# Altium footprint library MicroSMD_40P_V.PcbLib: 12 footprints
Each footprint in its own frame and in the unit in brackets; x right, y up, seen from the top. Pads: shape width x height; smd on the part's side, far side on the other; paste and mask are expansions set on the pad; w line width, h text height; cw(c..) or ccw(c..) is an arc to the next point about the centre after c.
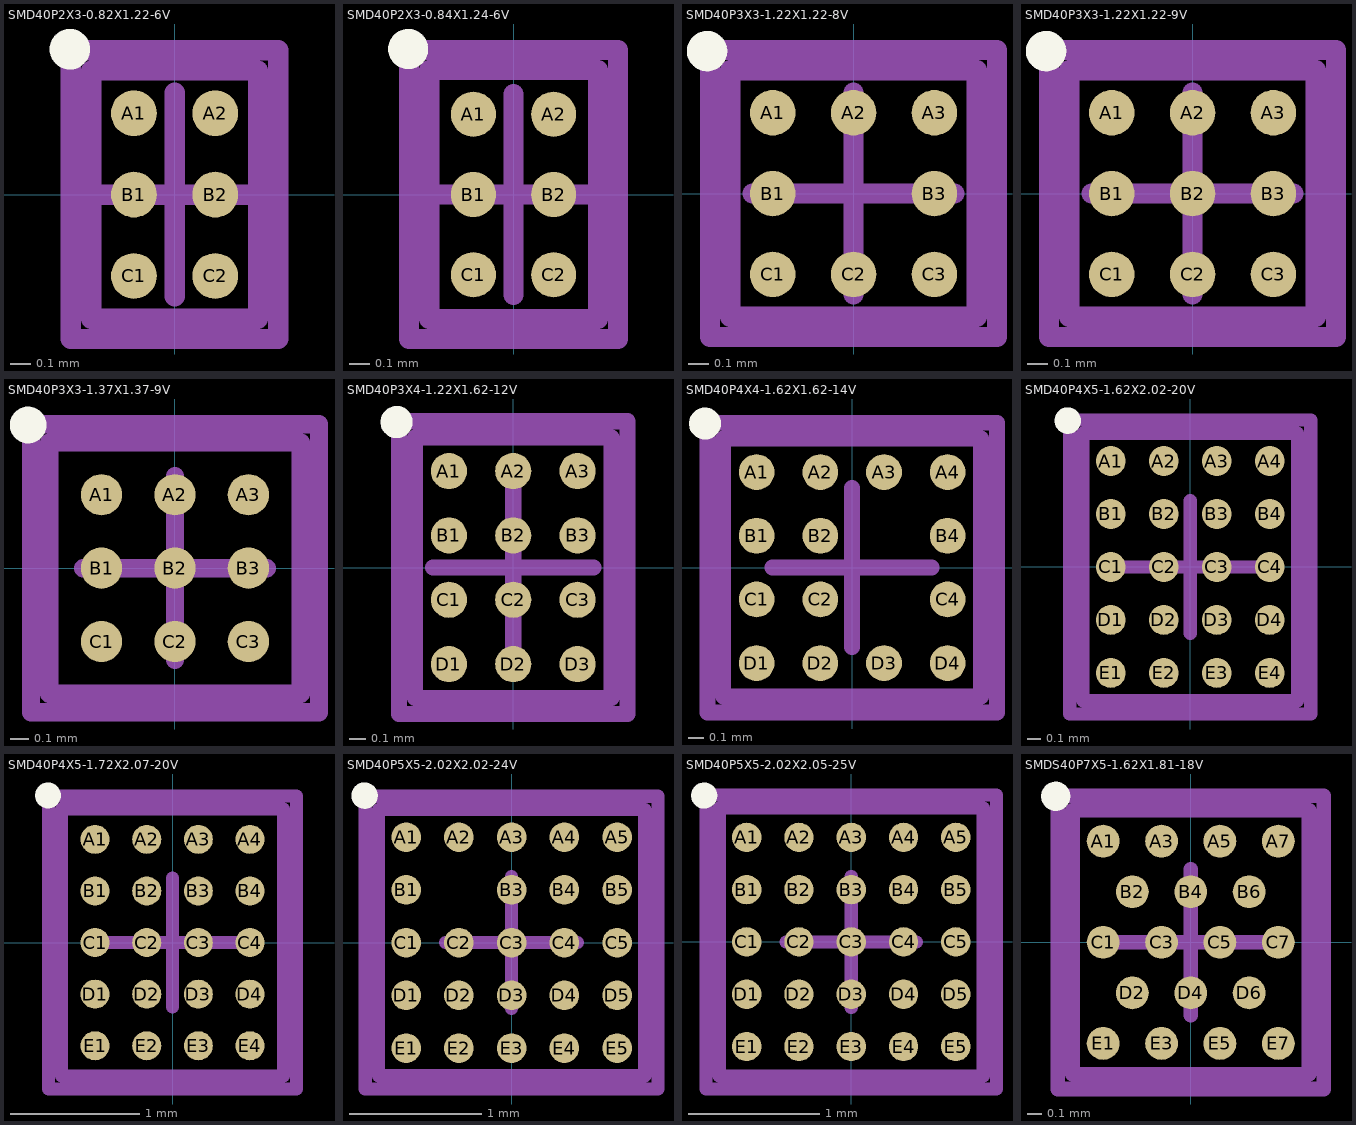
[diagram p0: the footprints below, top view; thin cyan lines are the x and y axes]

## SMD40P2X3-0.82X1.22-6V [mm] "Micro SMD, 6-Leads, Body 1.22x0.82mm, Pitch 0.4mm, NSC Recommended"
height 0.68
pads (6):
  round 0.225 smd paste-0.112 mask+0.05: A1(-0.2,0.4) A2(0.2,0.4) B1(-0.2,0) B2(0.2,0) C1(-0.2,-0.4) C2(0.2,-0.4)
Top Overlay:
  circle w0.1: c-0.515,0.715 r0.05
Top Paste:
  circle w0.05: c-0.15,0.5 r0.025
  circle w0.05: c-0.3,0.35 r0.025
  circle w0.05: c-0.3,0.5 r0.025
  circle w0.05: c-0.15,0.35 r0.025
  circle w0.05: c0.3,0.5 r0.025
  circle w0.05: c0.15,0.35 r0.025
  circle w0.05: c0.15,0.5 r0.025
  circle w0.05: c0.3,0.35 r0.025
  circle w0.05: c-0.15,0.075 r0.025
  circle w0.05: c-0.3,-0.075 r0.025
  circle w0.05: c-0.3,0.075 r0.025
  circle w0.05: c-0.15,-0.075 r0.025
  circle w0.05: c0.3,0.075 r0.025
  circle w0.05: c0.15,-0.075 r0.025
  circle w0.05: c0.15,0.075 r0.025
  circle w0.05: c0.3,-0.075 r0.025
  circle w0.05: c-0.15,-0.35 r0.025
  circle w0.05: c-0.3,-0.5 r0.025
  circle w0.05: c-0.3,-0.35 r0.025
  circle w0.05: c-0.15,-0.5 r0.025
  circle w0.05: c0.3,-0.35 r0.025
  circle w0.05: c0.15,-0.5 r0.025
  circle w0.05: c0.15,-0.35 r0.025
  circle w0.05: c0.3,-0.5 r0.025
  rectangle: -0.3,0.3 -0.15,0.35
  region: -0.35,0.5 -0.35,0.35 -0.3,0.35 -0.3,0.5
  region: -0.15,0.55 -0.3,0.55 -0.3,0.5 -0.15,0.5
  region: -0.1,0.35 -0.1,0.5 -0.15,0.5 -0.15,0.35
  region: -0.3,0.5 -0.3,0.35 -0.15,0.35 -0.15,0.5
  rectangle: 0.15,0.3 0.3,0.35
  region: 0.1,0.5 0.1,0.35 0.15,0.35 0.15,0.5
  region: 0.3,0.55 0.15,0.55 0.15,0.5 0.3,0.5
  region: 0.35,0.35 0.35,0.5 0.3,0.5 0.3,0.35
  region: 0.15,0.5 0.15,0.35 0.3,0.35 0.3,0.5
  rectangle: -0.3,-0.125 -0.15,-0.075
  region: -0.35,0.075 -0.35,-0.075 -0.3,-0.075 -0.3,0.075
  region: -0.15,0.125 -0.3,0.125 -0.3,0.075 -0.15,0.075
  region: -0.1,-0.075 -0.1,0.075 -0.15,0.075 -0.15,-0.075
  region: -0.3,0.075 -0.3,-0.075 -0.15,-0.075 -0.15,0.075
  rectangle: 0.15,-0.125 0.3,-0.075
  region: 0.1,0.075 0.1,-0.075 0.15,-0.075 0.15,0.075
  region: 0.3,0.125 0.15,0.125 0.15,0.075 0.3,0.075
  region: 0.35,-0.075 0.35,0.075 0.3,0.075 0.3,-0.075
  region: 0.15,0.075 0.15,-0.075 0.3,-0.075 0.3,0.075
  rectangle: -0.3,-0.55 -0.15,-0.5
  region: -0.35,-0.35 -0.35,-0.5 -0.3,-0.5 -0.3,-0.35
  region: -0.15,-0.3 -0.3,-0.3 -0.3,-0.35 -0.15,-0.35
  region: -0.1,-0.5 -0.1,-0.35 -0.15,-0.35 -0.15,-0.5
  region: -0.3,-0.35 -0.3,-0.5 -0.15,-0.5 -0.15,-0.35
  rectangle: 0.15,-0.55 0.3,-0.5
  region: 0.1,-0.35 0.1,-0.5 0.15,-0.5 0.15,-0.35
  region: 0.3,-0.3 0.15,-0.3 0.15,-0.35 0.3,-0.35
  region: 0.35,-0.5 0.35,-0.35 0.3,-0.35 0.3,-0.5
  region: 0.15,-0.35 0.15,-0.5 0.3,-0.5 0.3,-0.35
Mechanical 13:
  lines w0.1: -0.41,-0.61 -0.41,0.61 0.41,0.61 0.41,-0.61 -0.41,-0.61
Mechanical 15:
  lines w0.1: -0.5,0 0.5,0 ; 0,-0.5 0,0.5 ; -0.51,-0.71 -0.51,0.71 0.51,0.71 0.51,-0.71 -0.51,-0.71
3D body: height 0.68, standoff 0, extent -0.41,-0.61 0.41,0.61

## SMD40P2X3-0.84X1.24-6V [mm] "Micro SMD, 6-Leads, Body 1.24x0.84mm, Pitch 0.4mm, NSC Recommended"
height 0.68
pads (6):
  round 0.225 smd paste-0.112 mask+0.05: A1(-0.2,0.4) A2(0.2,0.4) B1(-0.2,0) B2(0.2,0) C1(-0.2,-0.4) C2(0.2,-0.4)
Top Overlay:
  circle w0.1: c-0.525,0.725 r0.05
Top Paste:
  circle w0.05: c0.15,0.075 r0.025
  circle w0.05: c0.3,-0.075 r0.025
  circle w0.05: c0.15,-0.075 r0.025
  circle w0.05: c0.3,0.075 r0.025
  circle w0.05: c0.15,0.35 r0.025
  circle w0.05: c0.3,0.5 r0.025
  circle w0.05: c0.3,0.35 r0.025
  circle w0.05: c0.15,0.5 r0.025
  circle w0.05: c0.15,-0.35 r0.025
  circle w0.05: c0.3,-0.5 r0.025
  circle w0.05: c0.3,-0.35 r0.025
  circle w0.05: c0.15,-0.5 r0.025
  circle w0.05: c-0.15,0.075 r0.025
  circle w0.05: c-0.3,-0.075 r0.025
  circle w0.05: c-0.15,-0.075 r0.025
  circle w0.05: c-0.3,0.075 r0.025
  circle w0.05: c-0.15,0.35 r0.025
  circle w0.05: c-0.3,0.5 r0.025
  circle w0.05: c-0.3,0.35 r0.025
  circle w0.05: c-0.15,0.5 r0.025
  circle w0.05: c-0.15,-0.35 r0.025
  circle w0.05: c-0.3,-0.5 r0.025
  circle w0.05: c-0.3,-0.35 r0.025
  circle w0.05: c-0.15,-0.5 r0.025
  region: 0.3,0.075 0.15,0.075 0.15,-0.075 0.3,-0.075
  rectangle: 0.15,0.075 0.3,0.125
  region: 0.3,0.075 0.3,-0.075 0.35,-0.075 0.35,0.075
  region: 0.3,-0.075 0.15,-0.075 0.15,-0.125 0.3,-0.125
  region: 0.15,-0.075 0.15,0.075 0.1,0.075 0.1,-0.075
  region: 0.15,0.5 0.15,0.35 0.3,0.35 0.3,0.5
  region: 0.15,0.35 0.15,0.5 0.1,0.5 0.1,0.35
  rectangle: 0.15,0.5 0.3,0.55
  region: 0.3,0.5 0.3,0.35 0.35,0.35 0.35,0.5
  region: 0.3,0.35 0.15,0.35 0.15,0.3 0.3,0.3
  region: 0.3,-0.5 0.3,-0.35 0.15,-0.35 0.15,-0.5
  region: 0.1,-0.35 0.1,-0.5 0.15,-0.5 0.15,-0.35
  rectangle: 0.15,-0.55 0.3,-0.5
  region: 0.35,-0.5 0.35,-0.35 0.3,-0.35 0.3,-0.5
  region: 0.3,-0.3 0.15,-0.3 0.15,-0.35 0.3,-0.35
  rectangle: -0.3,-0.075 -0.15,0.075
  region: -0.15,0.125 -0.3,0.125 -0.3,0.075 -0.15,0.075
  region: -0.35,0.075 -0.35,-0.075 -0.3,-0.075 -0.3,0.075
  rectangle: -0.3,-0.125 -0.15,-0.075
  region: -0.1,-0.075 -0.1,0.075 -0.15,0.075 -0.15,-0.075
  region: -0.3,0.5 -0.3,0.35 -0.15,0.35 -0.15,0.5
  region: -0.1,0.35 -0.1,0.5 -0.15,0.5 -0.15,0.35
  region: -0.15,0.55 -0.3,0.55 -0.3,0.5 -0.15,0.5
  region: -0.35,0.5 -0.35,0.35 -0.3,0.35 -0.3,0.5
  rectangle: -0.3,0.3 -0.15,0.35
  region: -0.15,-0.5 -0.15,-0.35 -0.3,-0.35 -0.3,-0.5
  region: -0.15,-0.35 -0.15,-0.5 -0.1,-0.5 -0.1,-0.35
  region: -0.15,-0.5 -0.3,-0.5 -0.3,-0.55 -0.15,-0.55
  region: -0.3,-0.5 -0.3,-0.35 -0.35,-0.35 -0.35,-0.5
  rectangle: -0.3,-0.35 -0.15,-0.3
Mechanical 13:
  lines w0.1: -0.42,-0.62 0.42,-0.62 0.42,0.62 -0.42,0.62 -0.42,-0.62
Mechanical 15:
  lines w0.1: -0.5,0 0.5,0 ; 0,-0.5 0,0.5 ; -0.52,-0.72 0.52,-0.72 0.52,0.72 -0.52,0.72 -0.52,-0.72
3D body: height 0.68, standoff 0.17, extent -0.419,-0.619 0.419,0.619

## SMD40P3X3-1.22X1.22-8V [mm] "Micro SMD, 8-Leads, Body 1.22x1.22mm, Pitch 0.4mm, NSC Recommended"
height 0.68
pads (8):
  round 0.225 smd paste-0.112 mask+0.05: A1(-0.4,0.4) A2(0,0.4) A3(0.4,0.4) B1(-0.4,0) B3(0.4,0) C1(-0.4,-0.4) C2(0,-0.4) C3(0.4,-0.4)
Top Overlay:
  circle w0.1: c-0.725,0.705 r0.05
Top Paste:
  circle w0.05: c0.35,-0.075 r0.025
  circle w0.05: c0.5,0.075 r0.025
  circle w0.05: c0.35,0.075 r0.025
  circle w0.05: c0.5,-0.075 r0.025
  circle w0.05: c-0.075,-0.35 r0.025
  circle w0.05: c0.075,-0.5 r0.025
  circle w0.05: c0.075,-0.35 r0.025
  circle w0.05: c-0.075,-0.5 r0.025
  circle w0.05: c-0.35,0.075 r0.025
  circle w0.05: c-0.5,-0.075 r0.025
  circle w0.05: c-0.35,-0.075 r0.025
  circle w0.05: c-0.5,0.075 r0.025
  circle w0.05: c0.075,0.35 r0.025
  circle w0.05: c-0.075,0.5 r0.025
  circle w0.05: c-0.075,0.35 r0.025
  circle w0.05: c0.075,0.5 r0.025
  circle w0.05: c-0.35,0.35 r0.025
  circle w0.05: c-0.5,0.5 r0.025
  circle w0.05: c-0.5,0.35 r0.025
  circle w0.05: c-0.35,0.5 r0.025
  circle w0.05: c0.35,0.35 r0.025
  circle w0.05: c0.5,0.5 r0.025
  circle w0.05: c0.5,0.35 r0.025
  circle w0.05: c0.35,0.5 r0.025
  circle w0.05: c0.35,-0.35 r0.025
  circle w0.05: c0.5,-0.5 r0.025
  circle w0.05: c0.5,-0.35 r0.025
  circle w0.05: c0.35,-0.5 r0.025
  circle w0.05: c-0.35,-0.35 r0.025
  circle w0.05: c-0.5,-0.5 r0.025
  circle w0.05: c-0.5,-0.35 r0.025
  circle w0.05: c-0.35,-0.5 r0.025
  region: 0.5,0.075 0.35,0.075 0.35,-0.075 0.5,-0.075
  rectangle: 0.35,-0.125 0.5,-0.075
  region: 0.55,-0.075 0.55,0.075 0.5,0.075 0.5,-0.075
  region: 0.5,0.125 0.35,0.125 0.35,0.075 0.5,0.075
  region: 0.3,0.075 0.3,-0.075 0.35,-0.075 0.35,0.075
  region: 0.075,-0.5 0.075,-0.35 -0.075,-0.35 -0.075,-0.5
  region: -0.125,-0.35 -0.125,-0.5 -0.075,-0.5 -0.075,-0.35
  rectangle: -0.075,-0.55 0.075,-0.5
  region: 0.125,-0.5 0.125,-0.35 0.075,-0.35 0.075,-0.5
  region: 0.075,-0.3 -0.075,-0.3 -0.075,-0.35 0.075,-0.35
  rectangle: -0.5,-0.075 -0.35,0.075
  region: -0.35,0.125 -0.5,0.125 -0.5,0.075 -0.35,0.075
  region: -0.55,0.075 -0.55,-0.075 -0.5,-0.075 -0.5,0.075
  rectangle: -0.5,-0.125 -0.35,-0.075
  region: -0.3,-0.075 -0.3,0.075 -0.35,0.075 -0.35,-0.075
  region: -0.075,0.5 -0.075,0.35 0.075,0.35 0.075,0.5
  region: 0.125,0.35 0.125,0.5 0.075,0.5 0.075,0.35
  region: 0.075,0.55 -0.075,0.55 -0.075,0.5 0.075,0.5
  region: -0.125,0.5 -0.125,0.35 -0.075,0.35 -0.075,0.5
  rectangle: -0.075,0.3 0.075,0.35
  region: -0.5,0.5 -0.5,0.35 -0.35,0.35 -0.35,0.5
  region: -0.3,0.35 -0.3,0.5 -0.35,0.5 -0.35,0.35
  region: -0.35,0.55 -0.5,0.55 -0.5,0.5 -0.35,0.5
  region: -0.55,0.5 -0.55,0.35 -0.5,0.35 -0.5,0.5
  rectangle: -0.5,0.3 -0.35,0.35
  region: 0.35,0.5 0.35,0.35 0.5,0.35 0.5,0.5
  region: 0.35,0.35 0.35,0.5 0.3,0.5 0.3,0.35
  rectangle: 0.35,0.5 0.5,0.55
  region: 0.5,0.5 0.5,0.35 0.55,0.35 0.55,0.5
  region: 0.5,0.35 0.35,0.35 0.35,0.3 0.5,0.3
  region: 0.5,-0.5 0.5,-0.35 0.35,-0.35 0.35,-0.5
  region: 0.3,-0.35 0.3,-0.5 0.35,-0.5 0.35,-0.35
  rectangle: 0.35,-0.55 0.5,-0.5
  region: 0.55,-0.5 0.55,-0.35 0.5,-0.35 0.5,-0.5
  region: 0.5,-0.3 0.35,-0.3 0.35,-0.35 0.5,-0.35
  region: -0.35,-0.5 -0.35,-0.35 -0.5,-0.35 -0.5,-0.5
  region: -0.35,-0.35 -0.35,-0.5 -0.3,-0.5 -0.3,-0.35
  region: -0.35,-0.5 -0.5,-0.5 -0.5,-0.55 -0.35,-0.55
  region: -0.5,-0.5 -0.5,-0.35 -0.55,-0.35 -0.55,-0.5
  rectangle: -0.5,-0.35 -0.35,-0.3
Mechanical 13:
  lines w0.1: -0.61,-0.61 0.61,-0.61 0.61,0.61 -0.61,0.61 -0.61,-0.61
Mechanical 15:
  lines w0.1: -0.5,0 0.5,0 ; 0,-0.5 0,0.5 ; -0.71,-0.71 0.71,-0.71 0.71,0.71 -0.71,0.71 -0.71,-0.71
3D body: height 0.68, standoff 0.17, extent -0.609,-0.609 0.609,0.609

## SMD40P3X3-1.22X1.22-9V [mm] "Micro SMD, 9-Leads, Body 1.22x1.22mm, Pitch 0.4mm, NSC Recommended"
height 0.68
pads (9):
  round 0.225 smd paste-0.112 mask+0.05: A1(-0.4,0.4) A2(0,0.4) A3(0.4,0.4) B1(-0.4,0) B2(0,0) B3(0.4,0) C1(-0.4,-0.4) C2(0,-0.4) C3(0.4,-0.4)
Top Overlay:
  circle w0.1: c-0.725,0.705 r0.05
Top Paste:
  circle w0.05: c0.075,-0.075 r0.025
  circle w0.05: c-0.075,0.075 r0.025
  circle w0.05: c-0.075,-0.075 r0.025
  circle w0.05: c0.075,0.075 r0.025
  circle w0.05: c-0.35,-0.5 r0.025
  circle w0.05: c-0.5,-0.35 r0.025
  circle w0.05: c-0.5,-0.5 r0.025
  circle w0.05: c-0.35,-0.35 r0.025
  circle w0.05: c0.35,-0.5 r0.025
  circle w0.05: c0.5,-0.35 r0.025
  circle w0.05: c0.5,-0.5 r0.025
  circle w0.05: c0.35,-0.35 r0.025
  circle w0.05: c0.35,0.5 r0.025
  circle w0.05: c0.5,0.35 r0.025
  circle w0.05: c0.5,0.5 r0.025
  circle w0.05: c0.35,0.35 r0.025
  circle w0.05: c-0.35,0.5 r0.025
  circle w0.05: c-0.5,0.35 r0.025
  circle w0.05: c-0.5,0.5 r0.025
  circle w0.05: c-0.35,0.35 r0.025
  circle w0.05: c0.075,0.5 r0.025
  circle w0.05: c-0.075,0.35 r0.025
  circle w0.05: c-0.075,0.5 r0.025
  circle w0.05: c0.075,0.35 r0.025
  circle w0.05: c-0.5,0.075 r0.025
  circle w0.05: c-0.35,-0.075 r0.025
  circle w0.05: c-0.5,-0.075 r0.025
  circle w0.05: c-0.35,0.075 r0.025
  circle w0.05: c-0.075,-0.5 r0.025
  circle w0.05: c0.075,-0.35 r0.025
  circle w0.05: c0.075,-0.5 r0.025
  circle w0.05: c-0.075,-0.35 r0.025
  circle w0.05: c0.5,-0.075 r0.025
  circle w0.05: c0.35,0.075 r0.025
  circle w0.05: c0.5,0.075 r0.025
  circle w0.05: c0.35,-0.075 r0.025
  region: -0.075,0.075 -0.075,-0.075 0.075,-0.075 0.075,0.075
  region: 0.125,-0.075 0.125,0.075 0.075,0.075 0.075,-0.075
  region: 0.075,0.125 -0.075,0.125 -0.075,0.075 0.075,0.075
  region: -0.125,0.075 -0.125,-0.075 -0.075,-0.075 -0.075,0.075
  rectangle: -0.075,-0.125 0.075,-0.075
  rectangle: -0.5,-0.35 -0.35,-0.3
  region: -0.5,-0.5 -0.5,-0.35 -0.55,-0.35 -0.55,-0.5
  region: -0.35,-0.5 -0.5,-0.5 -0.5,-0.55 -0.35,-0.55
  region: -0.35,-0.35 -0.35,-0.5 -0.3,-0.5 -0.3,-0.35
  region: -0.35,-0.5 -0.35,-0.35 -0.5,-0.35 -0.5,-0.5
  region: 0.5,-0.3 0.35,-0.3 0.35,-0.35 0.5,-0.35
  region: 0.55,-0.5 0.55,-0.35 0.5,-0.35 0.5,-0.5
  rectangle: 0.35,-0.55 0.5,-0.5
  region: 0.3,-0.35 0.3,-0.5 0.35,-0.5 0.35,-0.35
  region: 0.5,-0.5 0.5,-0.35 0.35,-0.35 0.35,-0.5
  region: 0.5,0.35 0.35,0.35 0.35,0.3 0.5,0.3
  region: 0.5,0.5 0.5,0.35 0.55,0.35 0.55,0.5
  rectangle: 0.35,0.5 0.5,0.55
  region: 0.35,0.35 0.35,0.5 0.3,0.5 0.3,0.35
  region: 0.35,0.5 0.35,0.35 0.5,0.35 0.5,0.5
  rectangle: -0.5,0.3 -0.35,0.35
  region: -0.55,0.5 -0.55,0.35 -0.5,0.35 -0.5,0.5
  region: -0.35,0.55 -0.5,0.55 -0.5,0.5 -0.35,0.5
  region: -0.3,0.35 -0.3,0.5 -0.35,0.5 -0.35,0.35
  region: -0.5,0.5 -0.5,0.35 -0.35,0.35 -0.35,0.5
  rectangle: -0.075,0.3 0.075,0.35
  region: -0.125,0.5 -0.125,0.35 -0.075,0.35 -0.075,0.5
  region: 0.075,0.55 -0.075,0.55 -0.075,0.5 0.075,0.5
  region: 0.125,0.35 0.125,0.5 0.075,0.5 0.075,0.35
  region: -0.075,0.5 -0.075,0.35 0.075,0.35 0.075,0.5
  region: -0.3,-0.075 -0.3,0.075 -0.35,0.075 -0.35,-0.075
  rectangle: -0.5,-0.125 -0.35,-0.075
  region: -0.55,0.075 -0.55,-0.075 -0.5,-0.075 -0.5,0.075
  region: -0.35,0.125 -0.5,0.125 -0.5,0.075 -0.35,0.075
  rectangle: -0.5,-0.075 -0.35,0.075
  region: 0.075,-0.3 -0.075,-0.3 -0.075,-0.35 0.075,-0.35
  region: 0.125,-0.5 0.125,-0.35 0.075,-0.35 0.075,-0.5
  rectangle: -0.075,-0.55 0.075,-0.5
  region: -0.125,-0.35 -0.125,-0.5 -0.075,-0.5 -0.075,-0.35
  region: 0.075,-0.5 0.075,-0.35 -0.075,-0.35 -0.075,-0.5
  region: 0.3,0.075 0.3,-0.075 0.35,-0.075 0.35,0.075
  region: 0.5,0.125 0.35,0.125 0.35,0.075 0.5,0.075
  region: 0.55,-0.075 0.55,0.075 0.5,0.075 0.5,-0.075
  rectangle: 0.35,-0.125 0.5,-0.075
  region: 0.5,0.075 0.35,0.075 0.35,-0.075 0.5,-0.075
Mechanical 13:
  lines w0.1: -0.61,-0.61 0.61,-0.61 0.61,0.61 -0.61,0.61 -0.61,-0.61
Mechanical 15:
  lines w0.1: -0.5,0 0.5,0 ; 0,-0.5 0,0.5 ; -0.71,-0.71 0.71,-0.71 0.71,0.71 -0.71,0.71 -0.71,-0.71
3D body: height 0.68, standoff 0, extent -0.609,-0.609 0.609,0.609

## SMD40P3X3-1.37X1.37-9V [mm] "Micro SMD, 9-Leads, Body 1.37x1.37mm, Pitch 0.4mm, NSC Recommended"
height 0.68
pads (9):
  round 0.225 smd paste-0.112 mask+0.05: A1(-0.4,0.4) A2(0,0.4) A3(0.4,0.4) B1(-0.4,0) B2(0,0) B3(0.4,0) C1(-0.4,-0.4) C2(0,-0.4) C3(0.4,-0.4)
Top Overlay:
  circle w0.1: c-0.8,0.78 r0.05
Top Paste:
  circle w0.05: c-0.075,-0.35 r0.025
  circle w0.05: c0.075,-0.5 r0.025
  circle w0.05: c0.075,-0.35 r0.025
  circle w0.05: c-0.075,-0.5 r0.025
  circle w0.05: c-0.35,0.075 r0.025
  circle w0.05: c-0.5,-0.075 r0.025
  circle w0.05: c-0.35,-0.075 r0.025
  circle w0.05: c-0.5,0.075 r0.025
  circle w0.05: c0.075,0.35 r0.025
  circle w0.05: c-0.075,0.5 r0.025
  circle w0.05: c-0.075,0.35 r0.025
  circle w0.05: c0.075,0.5 r0.025
  circle w0.05: c0.35,-0.075 r0.025
  circle w0.05: c0.5,0.075 r0.025
  circle w0.05: c0.35,0.075 r0.025
  circle w0.05: c0.5,-0.075 r0.025
  circle w0.05: c-0.35,-0.5 r0.025
  circle w0.05: c-0.5,-0.35 r0.025
  circle w0.05: c-0.5,-0.5 r0.025
  circle w0.05: c-0.35,-0.35 r0.025
  circle w0.05: c0.35,-0.5 r0.025
  circle w0.05: c0.5,-0.35 r0.025
  circle w0.05: c0.5,-0.5 r0.025
  circle w0.05: c0.35,-0.35 r0.025
  circle w0.05: c0.35,0.5 r0.025
  circle w0.05: c0.5,0.35 r0.025
  circle w0.05: c0.5,0.5 r0.025
  circle w0.05: c0.35,0.35 r0.025
  circle w0.05: c-0.35,0.5 r0.025
  circle w0.05: c-0.5,0.35 r0.025
  circle w0.05: c-0.5,0.5 r0.025
  circle w0.05: c-0.35,0.35 r0.025
  circle w0.05: c0.075,0.075 r0.025
  circle w0.05: c-0.075,-0.075 r0.025
  circle w0.05: c-0.075,0.075 r0.025
  circle w0.05: c0.075,-0.075 r0.025
  region: 0.075,-0.5 0.075,-0.35 -0.075,-0.35 -0.075,-0.5
  region: -0.125,-0.35 -0.125,-0.5 -0.075,-0.5 -0.075,-0.35
  rectangle: -0.075,-0.55 0.075,-0.5
  region: 0.125,-0.5 0.125,-0.35 0.075,-0.35 0.075,-0.5
  region: 0.075,-0.3 -0.075,-0.3 -0.075,-0.35 0.075,-0.35
  rectangle: -0.5,-0.075 -0.35,0.075
  region: -0.35,0.125 -0.5,0.125 -0.5,0.075 -0.35,0.075
  region: -0.55,0.075 -0.55,-0.075 -0.5,-0.075 -0.5,0.075
  rectangle: -0.5,-0.125 -0.35,-0.075
  region: -0.3,-0.075 -0.3,0.075 -0.35,0.075 -0.35,-0.075
  region: -0.075,0.5 -0.075,0.35 0.075,0.35 0.075,0.5
  region: 0.125,0.35 0.125,0.5 0.075,0.5 0.075,0.35
  region: 0.075,0.55 -0.075,0.55 -0.075,0.5 0.075,0.5
  region: -0.125,0.5 -0.125,0.35 -0.075,0.35 -0.075,0.5
  rectangle: -0.075,0.3 0.075,0.35
  region: 0.5,0.075 0.35,0.075 0.35,-0.075 0.5,-0.075
  rectangle: 0.35,-0.125 0.5,-0.075
  region: 0.55,-0.075 0.55,0.075 0.5,0.075 0.5,-0.075
  region: 0.5,0.125 0.35,0.125 0.35,0.075 0.5,0.075
  region: 0.3,0.075 0.3,-0.075 0.35,-0.075 0.35,0.075
  rectangle: -0.5,-0.35 -0.35,-0.3
  region: -0.5,-0.5 -0.5,-0.35 -0.55,-0.35 -0.55,-0.5
  region: -0.35,-0.5 -0.5,-0.5 -0.5,-0.55 -0.35,-0.55
  region: -0.35,-0.35 -0.35,-0.5 -0.3,-0.5 -0.3,-0.35
  region: -0.35,-0.5 -0.35,-0.35 -0.5,-0.35 -0.5,-0.5
  region: 0.5,-0.3 0.35,-0.3 0.35,-0.35 0.5,-0.35
  region: 0.55,-0.5 0.55,-0.35 0.5,-0.35 0.5,-0.5
  rectangle: 0.35,-0.55 0.5,-0.5
  region: 0.3,-0.35 0.3,-0.5 0.35,-0.5 0.35,-0.35
  region: 0.5,-0.5 0.5,-0.35 0.35,-0.35 0.35,-0.5
  region: 0.5,0.35 0.35,0.35 0.35,0.3 0.5,0.3
  region: 0.5,0.5 0.5,0.35 0.55,0.35 0.55,0.5
  rectangle: 0.35,0.5 0.5,0.55
  region: 0.35,0.35 0.35,0.5 0.3,0.5 0.3,0.35
  region: 0.35,0.5 0.35,0.35 0.5,0.35 0.5,0.5
  rectangle: -0.5,0.3 -0.35,0.35
  region: -0.55,0.5 -0.55,0.35 -0.5,0.35 -0.5,0.5
  region: -0.35,0.55 -0.5,0.55 -0.5,0.5 -0.35,0.5
  region: -0.3,0.35 -0.3,0.5 -0.35,0.5 -0.35,0.35
  region: -0.5,0.5 -0.5,0.35 -0.35,0.35 -0.35,0.5
  rectangle: -0.075,-0.125 0.075,-0.075
  region: -0.125,0.075 -0.125,-0.075 -0.075,-0.075 -0.075,0.075
  region: 0.075,0.125 -0.075,0.125 -0.075,0.075 0.075,0.075
  region: 0.125,-0.075 0.125,0.075 0.075,0.075 0.075,-0.075
  region: -0.075,0.075 -0.075,-0.075 0.075,-0.075 0.075,0.075
Mechanical 13:
  lines w0.1: -0.685,-0.685 0.685,-0.685 0.685,0.685 -0.685,0.685 -0.685,-0.685
Mechanical 15:
  lines w0.1: -0.5,0 0.5,0 ; 0,-0.5 0,0.5 ; -0.785,-0.785 0.785,-0.785 0.785,0.785 -0.785,0.785 -0.785,-0.785
3D body: height 0.68, standoff 0, extent -0.684,-0.684 0.684,0.684

## SMD40P3X4-1.22X1.62-12V [mm] "Micro SMD, 12-Leads, Body 1.62x1.22mm, Pitch 0.4mm, NSC Recommended"
height 0.68
pads (12):
  round 0.225 smd paste-0.112 mask+0.05: A1(-0.4,0.6) A2(0,0.6) A3(0.4,0.6) B1(-0.4,0.2) B2(0,0.2) B3(0.4,0.2) C1(-0.4,-0.2) C2(0,-0.2) C3(0.4,-0.2) D1(-0.4,-0.6) D2(0,-0.6) D3(0.4,-0.6)
Top Overlay:
  circle w0.1: c-0.725,0.905 r0.05
Top Paste:
  circle w0.05: c0.35,-0.7 r0.025
  circle w0.05: c0.5,-0.55 r0.025
  circle w0.05: c0.5,-0.7 r0.025
  circle w0.05: c0.35,-0.55 r0.025
  circle w0.05: c0.35,0.7 r0.025
  circle w0.05: c0.5,0.55 r0.025
  circle w0.05: c0.5,0.7 r0.025
  circle w0.05: c0.35,0.55 r0.025
  circle w0.05: c-0.35,0.7 r0.025
  circle w0.05: c-0.5,0.55 r0.025
  circle w0.05: c-0.5,0.7 r0.025
  circle w0.05: c-0.35,0.55 r0.025
  circle w0.05: c-0.35,-0.7 r0.025
  circle w0.05: c-0.5,-0.55 r0.025
  circle w0.05: c-0.5,-0.7 r0.025
  circle w0.05: c-0.35,-0.55 r0.025
  circle w0.05: c-0.075,-0.7 r0.025
  circle w0.05: c0.075,-0.55 r0.025
  circle w0.05: c0.075,-0.7 r0.025
  circle w0.05: c-0.075,-0.55 r0.025
  circle w0.05: c0.5,-0.275 r0.025
  circle w0.05: c0.35,-0.125 r0.025
  circle w0.05: c0.5,-0.125 r0.025
  circle w0.05: c0.35,-0.275 r0.025
  circle w0.05: c0.5,0.125 r0.025
  circle w0.05: c0.35,0.275 r0.025
  circle w0.05: c0.5,0.275 r0.025
  circle w0.05: c0.35,0.125 r0.025
  circle w0.05: c0.075,0.7 r0.025
  circle w0.05: c-0.075,0.55 r0.025
  circle w0.05: c-0.075,0.7 r0.025
  circle w0.05: c0.075,0.55 r0.025
  circle w0.05: c-0.5,0.275 r0.025
  circle w0.05: c-0.35,0.125 r0.025
  circle w0.05: c-0.5,0.125 r0.025
  circle w0.05: c-0.35,0.275 r0.025
  circle w0.05: c-0.5,-0.125 r0.025
  circle w0.05: c-0.35,-0.275 r0.025
  circle w0.05: c-0.5,-0.275 r0.025
  circle w0.05: c-0.35,-0.125 r0.025
  circle w0.05: c0.075,0.275 r0.025
  circle w0.05: c-0.075,0.125 r0.025
  circle w0.05: c-0.075,0.275 r0.025
  circle w0.05: c0.075,0.125 r0.025
  circle w0.05: c0.075,-0.125 r0.025
  circle w0.05: c-0.075,-0.275 r0.025
  circle w0.05: c-0.075,-0.125 r0.025
  circle w0.05: c0.075,-0.275 r0.025
  region: 0.5,-0.5 0.35,-0.5 0.35,-0.55 0.5,-0.55
  region: 0.55,-0.7 0.55,-0.55 0.5,-0.55 0.5,-0.7
  rectangle: 0.35,-0.75 0.5,-0.7
  region: 0.3,-0.55 0.3,-0.7 0.35,-0.7 0.35,-0.55
  region: 0.5,-0.7 0.5,-0.55 0.35,-0.55 0.35,-0.7
  region: 0.5,0.55 0.35,0.55 0.35,0.5 0.5,0.5
  region: 0.5,0.7 0.5,0.55 0.55,0.55 0.55,0.7
  rectangle: 0.35,0.7 0.5,0.75
  region: 0.35,0.55 0.35,0.7 0.3,0.7 0.3,0.55
  region: 0.35,0.7 0.35,0.55 0.5,0.55 0.5,0.7
  rectangle: -0.5,0.5 -0.35,0.55
  region: -0.55,0.7 -0.55,0.55 -0.5,0.55 -0.5,0.7
  region: -0.35,0.75 -0.5,0.75 -0.5,0.7 -0.35,0.7
  region: -0.3,0.55 -0.3,0.7 -0.35,0.7 -0.35,0.55
  region: -0.5,0.7 -0.5,0.55 -0.35,0.55 -0.35,0.7
  rectangle: -0.5,-0.55 -0.35,-0.5
  region: -0.5,-0.7 -0.5,-0.55 -0.55,-0.55 -0.55,-0.7
  region: -0.35,-0.7 -0.5,-0.7 -0.5,-0.75 -0.35,-0.75
  region: -0.35,-0.55 -0.35,-0.7 -0.3,-0.7 -0.3,-0.55
  region: -0.35,-0.7 -0.35,-0.55 -0.5,-0.55 -0.5,-0.7
  region: 0.075,-0.5 -0.075,-0.5 -0.075,-0.55 0.075,-0.55
  region: 0.125,-0.7 0.125,-0.55 0.075,-0.55 0.075,-0.7
  rectangle: -0.075,-0.75 0.075,-0.7
  region: -0.125,-0.55 -0.125,-0.7 -0.075,-0.7 -0.075,-0.55
  region: 0.075,-0.7 0.075,-0.55 -0.075,-0.55 -0.075,-0.7
  region: 0.3,-0.125 0.3,-0.275 0.35,-0.275 0.35,-0.125
  region: 0.5,-0.075 0.35,-0.075 0.35,-0.125 0.5,-0.125
  region: 0.55,-0.275 0.55,-0.125 0.5,-0.125 0.5,-0.275
  rectangle: 0.35,-0.325 0.5,-0.275
  region: 0.5,-0.125 0.35,-0.125 0.35,-0.275 0.5,-0.275
  region: 0.3,0.275 0.3,0.125 0.35,0.125 0.35,0.275
  region: 0.5,0.325 0.35,0.325 0.35,0.275 0.5,0.275
  region: 0.55,0.125 0.55,0.275 0.5,0.275 0.5,0.125
  rectangle: 0.35,0.075 0.5,0.125
  region: 0.5,0.275 0.35,0.275 0.35,0.125 0.5,0.125
  rectangle: -0.075,0.5 0.075,0.55
  region: -0.125,0.7 -0.125,0.55 -0.075,0.55 -0.075,0.7
  region: 0.075,0.75 -0.075,0.75 -0.075,0.7 0.075,0.7
  region: 0.125,0.55 0.125,0.7 0.075,0.7 0.075,0.55
  region: -0.075,0.7 -0.075,0.55 0.075,0.55 0.075,0.7
  region: -0.3,0.125 -0.3,0.275 -0.35,0.275 -0.35,0.125
  rectangle: -0.5,0.075 -0.35,0.125
  region: -0.55,0.275 -0.55,0.125 -0.5,0.125 -0.5,0.275
  region: -0.35,0.325 -0.5,0.325 -0.5,0.275 -0.35,0.275
  rectangle: -0.5,0.125 -0.35,0.275
  region: -0.3,-0.275 -0.3,-0.125 -0.35,-0.125 -0.35,-0.275
  rectangle: -0.5,-0.325 -0.35,-0.275
  region: -0.55,-0.125 -0.55,-0.275 -0.5,-0.275 -0.5,-0.125
  region: -0.35,-0.075 -0.5,-0.075 -0.5,-0.125 -0.35,-0.125
  rectangle: -0.5,-0.275 -0.35,-0.125
  rectangle: -0.075,0.075 0.075,0.125
  region: -0.125,0.275 -0.125,0.125 -0.075,0.125 -0.075,0.275
  region: 0.075,0.325 -0.075,0.325 -0.075,0.275 0.075,0.275
  region: 0.125,0.125 0.125,0.275 0.075,0.275 0.075,0.125
  region: -0.075,0.275 -0.075,0.125 0.075,0.125 0.075,0.275
  rectangle: -0.075,-0.325 0.075,-0.275
  region: -0.125,-0.125 -0.125,-0.275 -0.075,-0.275 -0.075,-0.125
  region: 0.075,-0.075 -0.075,-0.075 -0.075,-0.125 0.075,-0.125
  region: 0.125,-0.275 0.125,-0.125 0.075,-0.125 0.075,-0.275
  region: -0.075,-0.125 -0.075,-0.275 0.075,-0.275 0.075,-0.125
Mechanical 13:
  lines w0.1: -0.61,-0.81 -0.61,0.81 0.61,0.81 0.61,-0.81 -0.61,-0.81
Mechanical 15:
  lines w0.1: -0.5,0 0.5,0 ; 0,-0.5 0,0.5 ; -0.71,-0.91 -0.71,0.91 0.71,0.91 0.71,-0.91 -0.71,-0.91
3D body: height 0.68, standoff 0, extent -0.609,-0.809 0.609,0.809

## SMD40P4X4-1.62X1.62-14V [mm] "Micro SMD, 14-Leads, Body 1.62x1.62mm, Pitch 0.4mm, NSC Recommended"
height 0.68
pads (14):
  round 0.225 smd paste-0.112 mask+0.05: A1(-0.6,0.6) A2(-0.2,0.6) A3(0.2,0.6) A4(0.6,0.6) B1(-0.6,0.2) B2(-0.2,0.2) B4(0.6,0.2) C1(-0.6,-0.2) C2(-0.2,-0.2) C4(0.6,-0.2) D1(-0.6,-0.6) D2(-0.2,-0.6) D3(0.2,-0.6) D4(0.6,-0.6)
Top Overlay:
  circle w0.1: c-0.925,0.905 r0.05
Top Paste:
  circle w0.05: c-0.125,-0.275 r0.025
  circle w0.05: c-0.275,-0.125 r0.025
  circle w0.05: c-0.275,-0.275 r0.025
  circle w0.05: c-0.125,-0.125 r0.025
  circle w0.05: c-0.125,0.125 r0.025
  circle w0.05: c-0.275,0.275 r0.025
  circle w0.05: c-0.275,0.125 r0.025
  circle w0.05: c-0.125,0.275 r0.025
  circle w0.05: c0.275,-0.55 r0.025
  circle w0.05: c0.125,-0.7 r0.025
  circle w0.05: c0.125,-0.55 r0.025
  circle w0.05: c0.275,-0.7 r0.025
  circle w0.05: c-0.125,0.55 r0.025
  circle w0.05: c-0.275,0.7 r0.025
  circle w0.05: c-0.275,0.55 r0.025
  circle w0.05: c-0.125,0.7 r0.025
  circle w0.05: c0.275,0.55 r0.025
  circle w0.05: c0.125,0.7 r0.025
  circle w0.05: c0.125,0.55 r0.025
  circle w0.05: c0.275,0.7 r0.025
  circle w0.05: c0.55,0.125 r0.025
  circle w0.05: c0.7,0.275 r0.025
  circle w0.05: c0.55,0.275 r0.025
  circle w0.05: c0.7,0.125 r0.025
  circle w0.05: c0.55,-0.275 r0.025
  circle w0.05: c0.7,-0.125 r0.025
  circle w0.05: c0.55,-0.125 r0.025
  circle w0.05: c0.7,-0.275 r0.025
  circle w0.05: c-0.275,-0.55 r0.025
  circle w0.05: c-0.125,-0.7 r0.025
  circle w0.05: c-0.125,-0.55 r0.025
  circle w0.05: c-0.275,-0.7 r0.025
  circle w0.05: c-0.55,-0.125 r0.025
  circle w0.05: c-0.7,-0.275 r0.025
  circle w0.05: c-0.55,-0.275 r0.025
  circle w0.05: c-0.7,-0.125 r0.025
  circle w0.05: c-0.55,0.275 r0.025
  circle w0.05: c-0.7,0.125 r0.025
  circle w0.05: c-0.55,0.125 r0.025
  circle w0.05: c-0.7,0.275 r0.025
  circle w0.05: c0.55,-0.55 r0.025
  circle w0.05: c0.7,-0.7 r0.025
  circle w0.05: c0.7,-0.55 r0.025
  circle w0.05: c0.55,-0.7 r0.025
  circle w0.05: c-0.55,-0.55 r0.025
  circle w0.05: c-0.7,-0.7 r0.025
  circle w0.05: c-0.7,-0.55 r0.025
  circle w0.05: c-0.55,-0.7 r0.025
  circle w0.05: c-0.55,0.55 r0.025
  circle w0.05: c-0.7,0.7 r0.025
  circle w0.05: c-0.7,0.55 r0.025
  circle w0.05: c-0.55,0.7 r0.025
  circle w0.05: c0.55,0.55 r0.025
  circle w0.05: c0.7,0.7 r0.025
  circle w0.05: c0.7,0.55 r0.025
  circle w0.05: c0.55,0.7 r0.025
  region: -0.275,-0.125 -0.275,-0.275 -0.125,-0.275 -0.125,-0.125
  region: -0.075,-0.275 -0.075,-0.125 -0.125,-0.125 -0.125,-0.275
  region: -0.125,-0.075 -0.275,-0.075 -0.275,-0.125 -0.125,-0.125
  region: -0.325,-0.125 -0.325,-0.275 -0.275,-0.275 -0.275,-0.125
  rectangle: -0.275,-0.325 -0.125,-0.275
  region: -0.275,0.275 -0.275,0.125 -0.125,0.125 -0.125,0.275
  region: -0.075,0.125 -0.075,0.275 -0.125,0.275 -0.125,0.125
  region: -0.125,0.325 -0.275,0.325 -0.275,0.275 -0.125,0.275
  region: -0.325,0.275 -0.325,0.125 -0.275,0.125 -0.275,0.275
  rectangle: -0.275,0.075 -0.125,0.125
  region: 0.275,-0.7 0.275,-0.55 0.125,-0.55 0.125,-0.7
  region: 0.275,-0.55 0.275,-0.7 0.325,-0.7 0.325,-0.55
  region: 0.275,-0.7 0.125,-0.7 0.125,-0.75 0.275,-0.75
  region: 0.125,-0.7 0.125,-0.55 0.075,-0.55 0.075,-0.7
  rectangle: 0.125,-0.55 0.275,-0.5
  region: -0.275,0.7 -0.275,0.55 -0.125,0.55 -0.125,0.7
  region: -0.075,0.55 -0.075,0.7 -0.125,0.7 -0.125,0.55
  region: -0.125,0.75 -0.275,0.75 -0.275,0.7 -0.125,0.7
  region: -0.325,0.7 -0.325,0.55 -0.275,0.55 -0.275,0.7
  rectangle: -0.275,0.5 -0.125,0.55
  region: 0.125,0.7 0.125,0.55 0.275,0.55 0.275,0.7
  region: 0.325,0.55 0.325,0.7 0.275,0.7 0.275,0.55
  region: 0.275,0.75 0.125,0.75 0.125,0.7 0.275,0.7
  region: 0.075,0.7 0.075,0.55 0.125,0.55 0.125,0.7
  rectangle: 0.125,0.5 0.275,0.55
  region: 0.7,0.275 0.55,0.275 0.55,0.125 0.7,0.125
  rectangle: 0.55,0.075 0.7,0.125
  region: 0.75,0.125 0.75,0.275 0.7,0.275 0.7,0.125
  region: 0.7,0.325 0.55,0.325 0.55,0.275 0.7,0.275
  region: 0.5,0.275 0.5,0.125 0.55,0.125 0.55,0.275
  region: 0.7,-0.125 0.55,-0.125 0.55,-0.275 0.7,-0.275
  rectangle: 0.55,-0.325 0.7,-0.275
  region: 0.75,-0.275 0.75,-0.125 0.7,-0.125 0.7,-0.275
  region: 0.7,-0.075 0.55,-0.075 0.55,-0.125 0.7,-0.125
  region: 0.5,-0.125 0.5,-0.275 0.55,-0.275 0.55,-0.125
  region: -0.125,-0.7 -0.125,-0.55 -0.275,-0.55 -0.275,-0.7
  region: -0.325,-0.55 -0.325,-0.7 -0.275,-0.7 -0.275,-0.55
  rectangle: -0.275,-0.75 -0.125,-0.7
  region: -0.075,-0.7 -0.075,-0.55 -0.125,-0.55 -0.125,-0.7
  region: -0.125,-0.5 -0.275,-0.5 -0.275,-0.55 -0.125,-0.55
  rectangle: -0.7,-0.275 -0.55,-0.125
  region: -0.55,-0.075 -0.7,-0.075 -0.7,-0.125 -0.55,-0.125
  region: -0.75,-0.125 -0.75,-0.275 -0.7,-0.275 -0.7,-0.125
  rectangle: -0.7,-0.325 -0.55,-0.275
  region: -0.5,-0.275 -0.5,-0.125 -0.55,-0.125 -0.55,-0.275
  rectangle: -0.7,0.125 -0.55,0.275
  region: -0.55,0.325 -0.7,0.325 -0.7,0.275 -0.55,0.275
  region: -0.75,0.275 -0.75,0.125 -0.7,0.125 -0.7,0.275
  rectangle: -0.7,0.075 -0.55,0.125
  region: -0.5,0.125 -0.5,0.275 -0.55,0.275 -0.55,0.125
  region: 0.7,-0.7 0.7,-0.55 0.55,-0.55 0.55,-0.7
  region: 0.5,-0.55 0.5,-0.7 0.55,-0.7 0.55,-0.55
  rectangle: 0.55,-0.75 0.7,-0.7
  region: 0.75,-0.7 0.75,-0.55 0.7,-0.55 0.7,-0.7
  region: 0.7,-0.5 0.55,-0.5 0.55,-0.55 0.7,-0.55
  region: -0.55,-0.7 -0.55,-0.55 -0.7,-0.55 -0.7,-0.7
  region: -0.55,-0.55 -0.55,-0.7 -0.5,-0.7 -0.5,-0.55
  region: -0.55,-0.7 -0.7,-0.7 -0.7,-0.75 -0.55,-0.75
  region: -0.7,-0.7 -0.7,-0.55 -0.75,-0.55 -0.75,-0.7
  rectangle: -0.7,-0.55 -0.55,-0.5
  region: -0.7,0.7 -0.7,0.55 -0.55,0.55 -0.55,0.7
  region: -0.5,0.55 -0.5,0.7 -0.55,0.7 -0.55,0.55
  region: -0.55,0.75 -0.7,0.75 -0.7,0.7 -0.55,0.7
  region: -0.75,0.7 -0.75,0.55 -0.7,0.55 -0.7,0.7
  rectangle: -0.7,0.5 -0.55,0.55
  region: 0.55,0.7 0.55,0.55 0.7,0.55 0.7,0.7
  region: 0.55,0.55 0.55,0.7 0.5,0.7 0.5,0.55
  rectangle: 0.55,0.7 0.7,0.75
  region: 0.7,0.7 0.7,0.55 0.75,0.55 0.75,0.7
  region: 0.7,0.55 0.55,0.55 0.55,0.5 0.7,0.5
Mechanical 13:
  lines w0.1: -0.81,-0.81 -0.81,0.81 0.81,0.81 0.81,-0.81 -0.81,-0.81
Mechanical 15:
  lines w0.1: -0.5,0 0.5,0 ; 0,-0.5 0,0.5 ; -0.91,-0.91 -0.91,0.91 0.91,0.91 0.91,-0.91 -0.91,-0.91
3D body: height 0.68, standoff 0, extent -0.809,-0.809 0.809,0.809

## SMD40P4X5-1.62X2.02-20V [mm] "Micro SMD, 20-Leads, Body 2.02x1.62mm, Pitch 0.4mm, NSC Recommended"
height 0.68
pads (20):
  round 0.225 smd paste-0.112 mask+0.05: A1(-0.6,0.8) A2(-0.2,0.8) A3(0.2,0.8) A4(0.6,0.8) B1(-0.6,0.4) B2(-0.2,0.4) B3(0.2,0.4) B4(0.6,0.4) C1(-0.6,0) C2(-0.2,0) C3(0.2,0) C4(0.6,0) D1(-0.6,-0.4) D2(-0.2,-0.4) D3(0.2,-0.4) D4(0.6,-0.4) E1(-0.6,-0.8) E2(-0.2,-0.8) E3(0.2,-0.8) E4(0.6,-0.8)
Top Overlay:
  circle w0.1: c-0.925,1.105 r0.05
Top Paste:
  drawing of 180 lines, arcs and shapes, not listed
Mechanical 13:
  lines w0.1: -0.81,-1.01 -0.81,1.01 0.81,1.01 0.81,-1.01 -0.81,-1.01
Mechanical 15:
  lines w0.1: -0.5,0 0.5,0 ; 0,-0.5 0,0.5 ; -0.91,-1.11 -0.91,1.11 0.91,1.11 0.91,-1.11 -0.91,-1.11
3D body: height 0.68, standoff 0, extent -0.809,-1.009 0.809,1.009

## SMD40P4X5-1.72X2.07-20V [mm] "Micro SMD, 20-Leads, Body 2.07x1.72mm, Pitch 0.4mm, NSC Recommended"
height 0.68
pads (20):
  round 0.225 smd paste-0.112 mask+0.05: A1(-0.6,0.8) A2(-0.2,0.8) A3(0.2,0.8) A4(0.6,0.8) B1(-0.6,0.4) B2(-0.2,0.4) B3(0.2,0.4) B4(0.6,0.4) C1(-0.6,0) C2(-0.2,0) C3(0.2,0) C4(0.6,0) D1(-0.6,-0.4) D2(-0.2,-0.4) D3(0.2,-0.4) D4(0.6,-0.4) E1(-0.6,-0.8) E2(-0.2,-0.8) E3(0.2,-0.8) E4(0.6,-0.8)
Top Overlay:
  circle w0.1: c-0.965,1.14 r0.05
Top Paste:
  drawing of 180 lines, arcs and shapes, not listed
Mechanical 13:
  lines w0.1: -0.86,-1.035 -0.86,1.035 0.86,1.035 0.86,-1.035 -0.86,-1.035
Mechanical 15:
  lines w0.1: -0.5,0 0.5,0 ; 0,-0.5 0,0.5 ; -0.96,-1.135 -0.96,1.135 0.96,1.135 0.96,-1.135 -0.96,-1.135
3D body: height 0.68, standoff 0, extent -0.86,-1.035 0.86,1.035

## SMD40P5X5-2.02X2.02-24V [mm] "Micro SMD, 24-Leads, Body 2.02x2.02mm, Pitch 0.4mm, NSC Recommended"
height 0.68
pads (24):
  round 0.225 smd paste-0.112 mask+0.05: A1(-0.8,0.8) A2(-0.4,0.8) A3(0,0.8) A4(0.4,0.8) A5(0.8,0.8) B1(-0.8,0.4) B3(0,0.4) B4(0.4,0.4) B5(0.8,0.4) C1(-0.8,0) C2(-0.4,0) C3(0,0) C4(0.4,0) C5(0.8,0) D1(-0.8,-0.4) D2(-0.4,-0.4) D3(0,-0.4) D4(0.4,-0.4) D5(0.8,-0.4) E1(-0.8,-0.8) E2(-0.4,-0.8) E3(0,-0.8) E4(0.4,-0.8) E5(0.8,-0.8)
Top Overlay:
  circle w0.1: c-1.115,1.115 r0.05
Top Paste:
  drawing of 216 lines, arcs and shapes, not listed
Mechanical 13:
  lines w0.1: -1.01,-1.01 1.01,-1.01 1.01,1.01 -1.01,1.01 -1.01,-1.01
Mechanical 15:
  lines w0.1: -0.5,0 0.5,0 ; 0,-0.5 0,0.5 ; -1.11,-1.11 1.11,-1.11 1.11,1.11 -1.11,1.11 -1.11,-1.11
3D body: height 0.68, standoff 0, extent -1.01,-1.01 1.01,1.01

## SMD40P5X5-2.02X2.05-25V [mm] "Micro SMD, 25-Leads, Body 2.05x2.02mm, Pitch 0.4mm, NSC Recommended"
height 0.68
pads (25):
  round 0.225 smd paste-0.112 mask+0.05: A1(-0.8,0.8) A2(-0.4,0.8) A3(0,0.8) A4(0.4,0.8) A5(0.8,0.8) B1(-0.8,0.4) B2(-0.4,0.4) B3(0,0.4) B4(0.4,0.4) B5(0.8,0.4) C1(-0.8,0) C2(-0.4,0) C3(0,0) C4(0.4,0) C5(0.8,0) D1(-0.8,-0.4) D2(-0.4,-0.4) D3(0,-0.4) D4(0.4,-0.4) D5(0.8,-0.4) E1(-0.8,-0.8) E2(-0.4,-0.8) E3(0,-0.8) E4(0.4,-0.8) E5(0.8,-0.8)
Top Overlay:
  circle w0.1: c-1.125,1.12 r0.05
Top Paste:
  drawing of 225 lines, arcs and shapes, not listed
Mechanical 13:
  lines w0.1: -1.01,-1.025 -1.01,1.025 1.01,1.025 1.01,-1.025 -1.01,-1.025
Mechanical 15:
  lines w0.1: -0.5,0 0.5,0 ; 0,-0.5 0,0.5 ; -1.11,-1.125 -1.11,1.125 1.11,1.125 1.11,-1.125 -1.11,-1.125
3D body: height 0.68, standoff 0, extent -1.009,-1.024 1.009,1.024

## SMDS40P7X5-1.62X1.81-18V [mm] "Micro SMD, 18-Leads, Body 1.81x1.62mm, Pitch 0.4mm, NSC Recommended"
height 0.68
pads (18):
  round 0.225 smd paste-0.112 mask+0.05: A1(-0.6,0.693) A3(-0.2,0.693) A5(0.2,0.693) A7(0.6,0.693) B2(-0.4,0.346) B4(0,0.346) B6(0.4,0.346) C1(-0.6,0) C3(-0.2,0) C5(0.2,0) C7(0.6,0) D2(-0.4,-0.346) D4(0,-0.346) D6(0.4,-0.346) E1(-0.6,-0.693) E3(-0.2,-0.693) E5(0.2,-0.693) E7(0.6,-0.693)
Top Overlay:
  circle w0.1: c-0.925,1 r0.05
Top Paste:
  drawing of 162 lines, arcs and shapes, not listed
Mechanical 13:
  lines w0.1: -0.81,-0.905 0.81,-0.905 0.81,0.905 -0.81,0.905 -0.81,-0.905
Mechanical 15:
  lines w0.1: -0.5,0 0.5,0 ; 0,-0.5 0,0.5 ; -0.91,-1.005 -0.91,1.005 0.91,1.005 0.91,-1.005 -0.91,-1.005
3D body: height 0.68, standoff 0, extent -0.809,-0.904 0.809,0.904